# Altium schematic symbol library DF11-10DP-2DSA.Schlib: 1 symbol
Pins are listed as number, name and electrical type; pins without a type are passive.

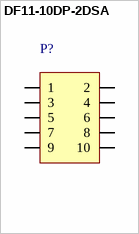
[diagram p0: symbol DF11-10DP-2DSA]

## DF11-10DP-2DSA
designator P?
10 Pin Vertical Hirose PCB Header
pins: 1, 2, 3, 4, 5, 6, 7, 8, 9, 10